# EAGLE library part TD301MCANFD (library serial_interfaces)
DIP-8 CAN Bus Modules Datasheet <https://www.mornsunpower.ru/html/pdf/TD301MCANFD.html>
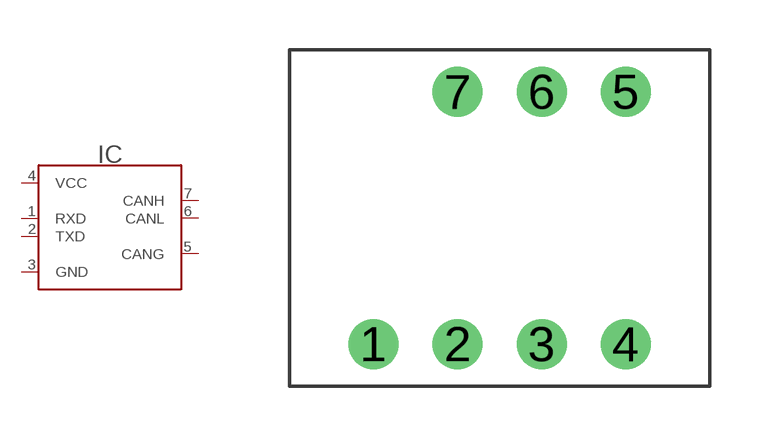
[diagram p36: symbol with the pads of TD5(3)01MCANFD; footprint TD5(3)01MCANFD]

Designator prefix IC

## TD301MCANFD (LCSC#: C115915; MANF: MORNSUN; MANF#: TD301MCANFD)  [TD5(3)01MCANFD]
1  RXD
2  TXD
3  GND
4  VCC
5  CANG
6  CANL
7  CANH

## Footprint TD5(3)01MCANFD (pad centres in mm)
drill 1 pad 1.5: 1 -3.81,-3.81; 2 -1.27,-3.81; 3 1.27,-3.81; 4 3.81,-3.81; 5 3.81,3.81; 6 1.27,3.81; 7 -1.27,3.81